# EAGLE library part MICROSD (library f-connector-interface)
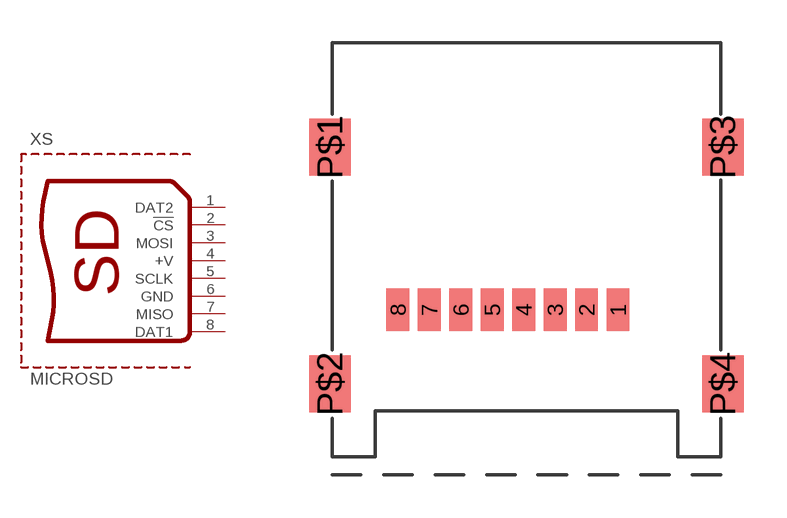
[diagram p4: symbol with the pads of 460DE08C3; footprint 460DE08C3]

Designator prefix XS

## MICROSD-460DE08C3  [460DE08C3]
1  DAT2
2  !CS
3  MOSI
4  +V
5  SCLK
6  GND
7  MISO
8  DAT1
P$1  SHIELD
P$2  SHIELD
P$3  SHIELD
P$4  SHIELD

## Footprint 460DE08C3 (pad centres in mm)
smd 0.8 x 1.5: 1 10,5.15; 2 8.9,5.15; 3 7.8,5.15; 4 6.7,5.15; 5 5.6,5.15; 6 4.5,5.15; 7 3.4,5.15; 8 2.3,5.15
smd 1.45 x 2: P$1 -0.075,10.85; P$2 -0.075,2.55; P$3 13.675,10.85; P$4 13.675,2.55